# EAGLE library part IN100-D1-R-RC1I (library IN100-D1-R-RC1I)
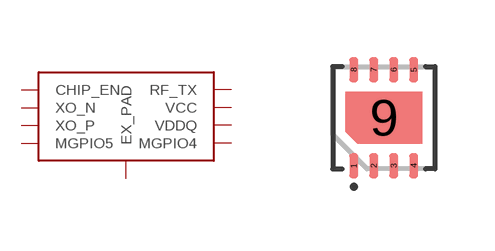
[diagram p0: symbol with the pads of SON9P50_250X250X80L30X20T190X130N; footprint SON9P50_250X250X80L30X20T190X130N]

Designator prefix IC

## IN100-D1-R-RC1I (DATASHEET: https://static1.squarespace.com/static/615e15afbd5653295346d2a8/t/633b49bed645fb2ddc4d7cfd/1664829922881/IN100+datasheet.pdf; MANUFACTURER: INPLAY; VALUE: IN100-D1-R-RC1I)  [SON9P50_250X250X80L30X20T190X130N]
1  CHIP_EN  nc
2  XO_N  nc
3  XO_P  nc
4  MGPIO5
5  MGPIO4
6  VDDQ  pwr
7  VCC  pwr
8  RF_TX  nc
9  EX_PAD  pwr

## Footprint SON9P50_250X250X80L30X20T190X130N (pad centres in mm)
smd 0.22 x 0.61: 1 -0.75,-1.2; 2 -0.25,-1.2; 3 0.25,-1.2; 4 0.75,-1.2; 5 0.75,1.2; 6 0.25,1.2; 7 -0.25,1.2; 8 -0.75,1.2
smd 1.3 x 1.3: 9 0,0